# Altium integrated library BQ2057SN.IntLib: 1 symbol
Pins are listed as number, name and electrical type; pins without a type are passive.

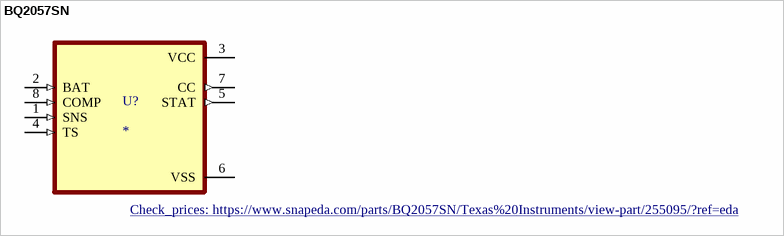
[diagram p0: symbol BQ2057SN]

## BQ2057SN
designator U?
Low Dropout linear 1-cell Li-ion charge controller with AutoCompTM, 4.1V 8-SOIC -20 to 70; MP: BQ2057SN; MF: Texas Instruments; Value: *; SnapEDA_Link: https://www.snapeda.com/parts/BQ2057SN/Texas%20Instruments/view-part/255095/?ref=snap; Price: None; Mouser-Purchase-URL: https://snapeda.com/shop?store=Mouser&id=255095; Package: SOIC-8 Texas Instruments; Texas_Instruments-Purchase-URL: https://snapeda.com/shop?store=Texas+Instruments&id=255095; Availability: Warning; Check_prices: https://www.snapeda.com/parts/BQ2057SN/Texas%20Instruments/view-part/255095/?ref=eda
footprint SOIC127P599X175-8N
pins: 1 SNS (in), 2 BAT (in), 3 VCC (power), 4 TS (in), 5 STAT (out), 6 VSS (power), 7 CC (out), 8 COMP (in)